# Altium schematic symbol library MAXM-MAX6126-8.SchLib: 1 symbol
Pins are listed as number, name and electrical type; pins without a type are passive.

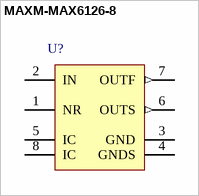
[diagram p0: symbol MAXM-MAX6126-8]

## MAXM-MAX6126-8
designator U?
pins: 1 NR "Noise Reduction. Connect a 0.1µF capacitor to improve wideband noise. Leave unconnected if not used.", 2 IN (power) "Positive Power-Supply Input", 3 GND (power) "Ground", 4 GNDS (power) "Ground-Sense Connection. Connect to  ground connection at load.", 5 IC "Internally Connected. Do not connect  anything to these pins.", 6 OUTS (out) "Voltage Reference Sense Output", 7 OUTF (out) "Voltage Reference Force Output. Short  OUTF to OUTS as close to the load as  possible. Bypass OUTF with a  capacitor (0.1µF to 10µF) to GND.", 8 IC "Internally Connected. Do not connect  anything to these pins."